# Altium schematic symbol library MTHNP126MIL.SchLib: 1 symbol
Pins are listed as number, name and electrical type; pins without a type are passive.

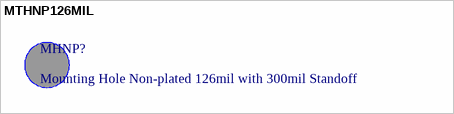
[diagram p0: symbol MTHNP126MIL]

## MTHNP126MIL
designator MHNP?, comment Mounting Hole Non-plated 126mil with 300mil Standoff
Non-plated Mounting Hole with 126mil Diameter Hole and 300mil Diameter for Standoff
footprint MTHNP126MIL (Mounting Hole Non-plated 126mil with 300mil Standoff)